# Altium footprint library WA-SMSI.PcbLib: 42 footprints (part 1 of 3)
Each footprint in its own frame and in the unit in brackets; x right, y up, seen from the top. Pads: shape width x height; smd on the part's side, far side on the other; paste and mask are expansions set on the pad; w line width, h text height; cw(c..) or ccw(c..) is an arc to the next point about the centre after c.
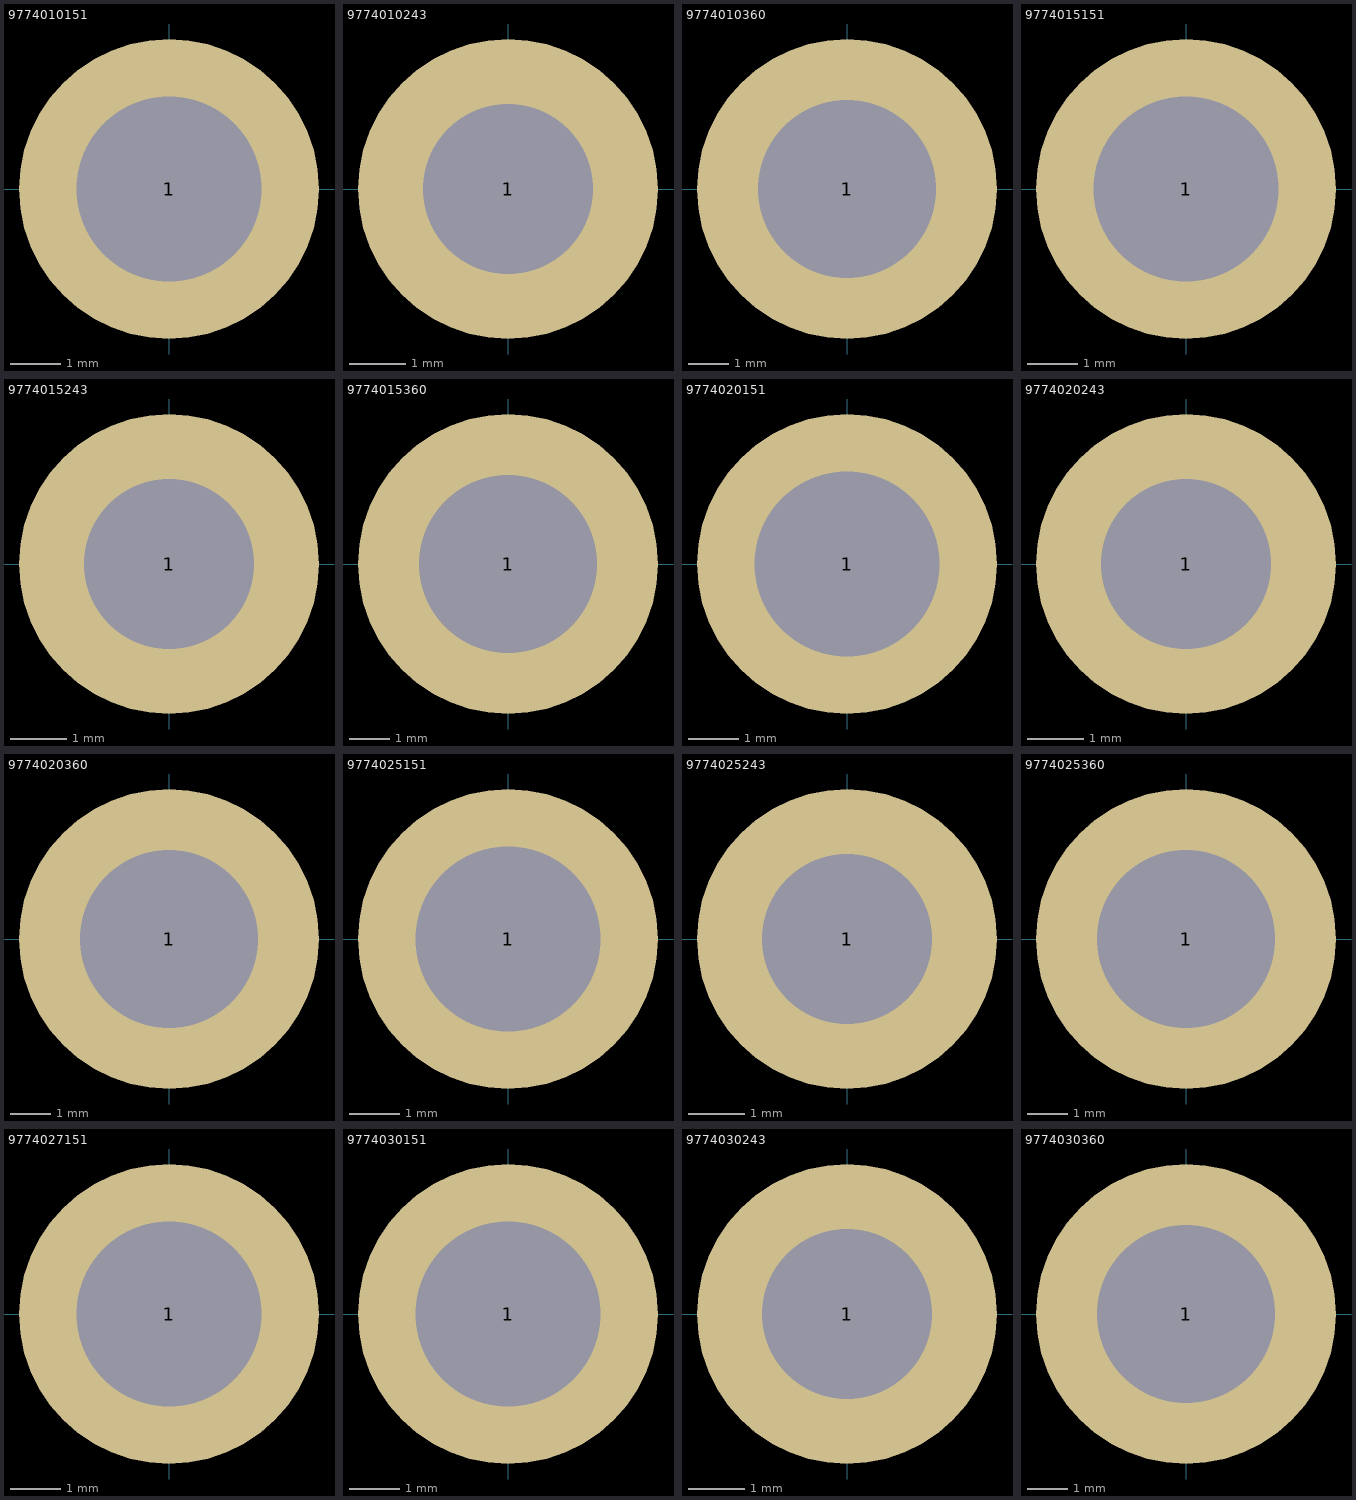
[diagram p0: the footprints below, top view; thin cyan lines are the x and y axes]

## 9774010151 [mm] "M2.5 Thread Internal, Length 1mm"
height 1
pads (1):
  round 6 / inner round 0 / far side round 0 hole 3.7 unplated paste-403.566: 1(0,0)
Top Paste:
  region: 0.25,2.939 0.508,2.917 1.009,2.784 1.478,2.566 1.903,2.269 2.269,1.903 2.566,1.478 2.784,1.009 2.917,0.508 2.939,0.25 1.883,0.25 1.857,0.403 1.767,0.699 1.629,0.977 1.449,1.229 1.229,1.449 0.977,1.629 0.7,1.767 0.403,1.857 0.25,1.883
  region: -2.939,0.25 -2.917,0.508 -2.784,1.009 -2.566,1.478 -2.269,1.903 -1.903,2.269 -1.478,2.566 -1.009,2.784 -0.508,2.917 -0.25,2.939 -0.25,1.883 -0.403,1.857 -0.699,1.767 -0.977,1.629 -1.229,1.449 -1.449,1.229 -1.629,0.977 -1.767,0.7 -1.857,0.403 -1.883,0.25
  region: -0.25,-2.939 -0.508,-2.917 -1.009,-2.784 -1.478,-2.566 -1.903,-2.269 -2.269,-1.903 -2.566,-1.478 -2.784,-1.009 -2.917,-0.508 -2.939,-0.25 -1.883,-0.25 -1.857,-0.403 -1.767,-0.699 -1.629,-0.977 -1.449,-1.229 -1.229,-1.449 -0.977,-1.629 -0.7,-1.767 -0.403,-1.857 -0.25,-1.883
  region: 2.939,-0.25 2.917,-0.508 2.784,-1.009 2.566,-1.478 2.269,-1.903 1.903,-2.269 1.478,-2.566 1.009,-2.784 0.508,-2.917 0.25,-2.939 0.25,-1.883 0.403,-1.857 0.699,-1.767 0.977,-1.629 1.229,-1.449 1.449,-1.229 1.629,-0.977 1.767,-0.7 1.857,-0.403 1.883,-0.25
Mechanical 13:
  circle w0.15: c0,0 r2.55
3D body "9774010151.stp": height 1.01, standoff -1.39, extent -2.55,-2.545 2.53,2.545

## 9774010243 [mm] "M2 Thread Internal, Length 1mm"
height 1
pads (1):
  round 5.3 / inner round 0 / far side round 0 hole 3 unplated paste-403.566: 1(0,0)
Top Paste:
  region: -2.588,0.25 -2.566,0.473 -2.447,0.906 -2.256,1.312 -1.997,1.68 -1.68,1.997 -1.312,2.256 -0.906,2.447 -0.473,2.566 -0.25,2.588 -0.25,1.529 -0.25,1.53 -0.368,1.506 -0.598,1.43 -0.812,1.32 -1.007,1.178 -1.178,1.007 -1.32,0.812 -1.43,0.598 -1.506,0.368 -1.53,0.25
  region: -0.25,-2.588 -0.473,-2.566 -0.906,-2.447 -1.312,-2.256 -1.68,-1.997 -1.997,-1.68 -2.256,-1.312 -2.447,-0.906 -2.566,-0.473 -2.588,-0.25 -1.529,-0.25 -1.53,-0.25 -1.506,-0.368 -1.43,-0.598 -1.32,-0.812 -1.178,-1.007 -1.007,-1.178 -0.812,-1.32 -0.598,-1.43 -0.368,-1.506 -0.25,-1.53
  region: 2.588,-0.25 2.566,-0.473 2.447,-0.906 2.256,-1.312 1.997,-1.68 1.68,-1.997 1.312,-2.256 0.906,-2.447 0.473,-2.566 0.25,-2.588 0.25,-1.529 0.25,-1.53 0.368,-1.506 0.598,-1.43 0.812,-1.32 1.007,-1.178 1.178,-1.007 1.32,-0.812 1.43,-0.598 1.506,-0.368 1.53,-0.25
  region: 0.25,2.588 0.473,2.566 0.906,2.447 1.312,2.256 1.68,1.997 1.997,1.68 2.256,1.312 2.447,0.906 2.566,0.473 2.588,0.25 1.529,0.25 1.53,0.25 1.506,0.368 1.43,0.598 1.32,0.812 1.178,1.007 1.007,1.178 0.812,1.32 0.598,1.43 0.368,1.506 0.25,1.53
Mechanical 13:
  circle w0.15: c0,0 r2.175
3D body "9774010243.stp": height 1.01, standoff -1.39, extent -2.175,-2.171 2.158,2.171

## 9774010360 [mm] "M3 Thread Internal, Length 1mm"
height 1
pads (1):
  round 7.4 / inner round 0 / far side round 0 hole 4.4 unplated paste-403.566: 1(0,0)
Top Paste:
  region: -3.641,0.25 -2.236,0.25 -2.207,0.437 -2.102,0.801 -1.938,1.143 -1.719,1.452 -1.451,1.719 -1.142,1.938 -0.801,2.103 -0.437,2.207 -0.25,2.236 -0.25,3.641 -0.468,3.626 -0.897,3.545 -1.313,3.413 -1.71,3.232 -2.083,3.005 -2.426,2.735 -2.735,2.427 -3.005,2.083 -3.232,1.71 -3.413,1.313 -3.545,0.897 -3.626,0.468
  region: -0.25,-3.641 -0.25,-2.236 -0.437,-2.207 -0.801,-2.102 -1.143,-1.938 -1.452,-1.719 -1.719,-1.451 -1.938,-1.142 -2.103,-0.801 -2.207,-0.437 -2.236,-0.25 -3.641,-0.25 -3.626,-0.468 -3.545,-0.897 -3.413,-1.313 -3.232,-1.71 -3.005,-2.083 -2.735,-2.426 -2.427,-2.735 -2.083,-3.005 -1.71,-3.232 -1.313,-3.413 -0.897,-3.545 -0.468,-3.626
  region: 3.641,-0.25 2.236,-0.25 2.207,-0.437 2.102,-0.801 1.938,-1.143 1.719,-1.452 1.451,-1.719 1.142,-1.938 0.801,-2.103 0.437,-2.207 0.25,-2.236 0.25,-3.641 0.468,-3.626 0.897,-3.545 1.313,-3.413 1.71,-3.232 2.083,-3.005 2.426,-2.735 2.735,-2.427 3.005,-2.083 3.232,-1.71 3.413,-1.313 3.545,-0.897 3.626,-0.468
  region: 0.25,3.641 0.25,2.236 0.437,2.207 0.801,2.102 1.143,1.938 1.452,1.719 1.719,1.451 1.938,1.142 2.103,0.801 2.207,0.437 2.236,0.25 3.641,0.25 3.626,0.468 3.545,0.897 3.413,1.313 3.232,1.71 3.005,2.083 2.735,2.426 2.427,2.735 2.083,3.005 1.71,3.232 1.313,3.413 0.897,3.545 0.468,3.626
Mechanical 13:
  circle w0.15: c0,0 r3
3D body "9774010360.stp": height 1.01, standoff -1.39, extent -2.994,-3 2.994,2.976

## 9774015151 [mm] "M2.5 Thread Internal, Length 1.5mm"
height 1.5
pads (1):
  round 6 / inner round 0 / far side round 0 hole 3.7 unplated paste-403.566: 1(0,0)
Top Paste:
  region: 2.939,-0.25 2.917,-0.508 2.784,-1.009 2.566,-1.478 2.269,-1.903 1.903,-2.269 1.478,-2.566 1.009,-2.784 0.508,-2.917 0.25,-2.939 0.25,-1.883 0.403,-1.857 0.699,-1.767 0.977,-1.629 1.229,-1.449 1.449,-1.229 1.629,-0.977 1.767,-0.7 1.857,-0.403 1.883,-0.25
  region: -0.25,-2.939 -0.508,-2.917 -1.009,-2.784 -1.478,-2.566 -1.903,-2.269 -2.269,-1.903 -2.566,-1.478 -2.784,-1.009 -2.917,-0.508 -2.939,-0.25 -1.883,-0.25 -1.857,-0.403 -1.767,-0.699 -1.629,-0.977 -1.449,-1.229 -1.229,-1.449 -0.977,-1.629 -0.7,-1.767 -0.403,-1.857 -0.25,-1.883
  region: -2.939,0.25 -2.917,0.508 -2.784,1.009 -2.566,1.478 -2.269,1.903 -1.903,2.269 -1.478,2.566 -1.009,2.784 -0.508,2.917 -0.25,2.939 -0.25,1.883 -0.403,1.857 -0.699,1.767 -0.977,1.629 -1.229,1.449 -1.449,1.229 -1.629,0.977 -1.767,0.7 -1.857,0.403 -1.883,0.25
  region: 0.25,2.939 0.508,2.917 1.009,2.784 1.478,2.566 1.903,2.269 2.269,1.903 2.566,1.478 2.784,1.009 2.917,0.508 2.939,0.25 1.883,0.25 1.857,0.403 1.767,0.699 1.629,0.977 1.449,1.229 1.229,1.449 0.977,1.629 0.7,1.767 0.403,1.857 0.25,1.883
Mechanical 13:
  circle w0.15: c0,0 r2.55
3D body "9774015151.stp": height 1.51, standoff -1.39, extent -2.55,-2.545 2.53,2.545

## 9774015243 [mm] "M2 Thread Internal, Length 1.5mm"
height 1.5
pads (1):
  round 5.3 / inner round 0 / far side round 0 hole 3 unplated paste-403.566: 1(0,0)
Top Paste:
  region: -2.588,0.25 -2.566,0.473 -2.447,0.906 -2.256,1.312 -1.997,1.68 -1.68,1.997 -1.312,2.256 -0.906,2.447 -0.473,2.566 -0.25,2.588 -0.25,1.529 -0.25,1.53 -0.368,1.506 -0.598,1.43 -0.812,1.32 -1.007,1.178 -1.178,1.007 -1.32,0.812 -1.43,0.598 -1.506,0.368 -1.53,0.25
  region: -0.25,-2.588 -0.473,-2.566 -0.906,-2.447 -1.312,-2.256 -1.68,-1.997 -1.997,-1.68 -2.256,-1.312 -2.447,-0.906 -2.566,-0.473 -2.588,-0.25 -1.529,-0.25 -1.53,-0.25 -1.506,-0.368 -1.43,-0.598 -1.32,-0.812 -1.178,-1.007 -1.007,-1.178 -0.812,-1.32 -0.598,-1.43 -0.368,-1.506 -0.25,-1.53
  region: 2.588,-0.25 2.566,-0.473 2.447,-0.906 2.256,-1.312 1.997,-1.68 1.68,-1.997 1.312,-2.256 0.906,-2.447 0.473,-2.566 0.25,-2.588 0.25,-1.529 0.25,-1.53 0.368,-1.506 0.598,-1.43 0.812,-1.32 1.007,-1.178 1.178,-1.007 1.32,-0.812 1.43,-0.598 1.506,-0.368 1.53,-0.25
  region: 0.25,2.588 0.473,2.566 0.906,2.447 1.312,2.256 1.68,1.997 1.997,1.68 2.256,1.312 2.447,0.906 2.566,0.473 2.588,0.25 1.529,0.25 1.53,0.25 1.506,0.368 1.43,0.598 1.32,0.812 1.178,1.007 1.007,1.178 0.812,1.32 0.598,1.43 0.368,1.506 0.25,1.53
Mechanical 13:
  circle w0.15: c0,0 r2.175
3D body "9774015243.stp": height 1.51, standoff -1.39, extent -2.175,-2.171 2.158,2.171

## 9774015360 [mm] "M3 Thread Internal, Length 1.5mm"
height 1.5
pads (1):
  round 7.4 / inner round 0 / far side round 0 hole 4.4 unplated paste-403.566: 1(0,0)
Top Paste:
  region: 0.25,3.641 0.25,2.236 0.437,2.207 0.801,2.102 1.143,1.938 1.452,1.719 1.719,1.451 1.938,1.142 2.103,0.801 2.207,0.437 2.236,0.25 3.641,0.25 3.626,0.468 3.545,0.897 3.413,1.313 3.232,1.71 3.005,2.083 2.735,2.426 2.427,2.735 2.083,3.005 1.71,3.232 1.313,3.413 0.897,3.545 0.468,3.626
  region: 3.641,-0.25 2.236,-0.25 2.207,-0.437 2.102,-0.801 1.938,-1.143 1.719,-1.452 1.451,-1.719 1.142,-1.938 0.801,-2.103 0.437,-2.207 0.25,-2.236 0.25,-3.641 0.468,-3.626 0.897,-3.545 1.313,-3.413 1.71,-3.232 2.083,-3.005 2.426,-2.735 2.735,-2.427 3.005,-2.083 3.232,-1.71 3.413,-1.313 3.545,-0.897 3.626,-0.468
  region: -0.25,-3.641 -0.25,-2.236 -0.437,-2.207 -0.801,-2.102 -1.143,-1.938 -1.452,-1.719 -1.719,-1.451 -1.938,-1.142 -2.103,-0.801 -2.207,-0.437 -2.236,-0.25 -3.641,-0.25 -3.626,-0.468 -3.545,-0.897 -3.413,-1.313 -3.232,-1.71 -3.005,-2.083 -2.735,-2.426 -2.427,-2.735 -2.083,-3.005 -1.71,-3.232 -1.313,-3.413 -0.897,-3.545 -0.468,-3.626
  region: -3.641,0.25 -2.236,0.25 -2.207,0.437 -2.102,0.801 -1.938,1.143 -1.719,1.452 -1.451,1.719 -1.142,1.938 -0.801,2.103 -0.437,2.207 -0.25,2.236 -0.25,3.641 -0.468,3.626 -0.897,3.545 -1.313,3.413 -1.71,3.232 -2.083,3.005 -2.426,2.735 -2.735,2.427 -3.005,2.083 -3.232,1.71 -3.413,1.313 -3.545,0.897 -3.626,0.468
Mechanical 13:
  circle w0.15: c0,0 r3
3D body "9774015360.stp": height 1.51, standoff -1.39, extent -2.994,-3 2.994,2.976

## 9774020151 [mm] "M2.5 Thread Internal, Length 2mm"
height 2
pads (1):
  round 6 / inner round 0 / far side round 0 hole 3.7 unplated paste-403.566: 1(0,0)
Top Paste:
  region: 2.939,-0.25 2.917,-0.508 2.784,-1.009 2.566,-1.478 2.269,-1.903 1.903,-2.269 1.478,-2.566 1.009,-2.784 0.508,-2.917 0.25,-2.939 0.25,-1.883 0.403,-1.857 0.699,-1.767 0.977,-1.629 1.229,-1.449 1.449,-1.229 1.629,-0.977 1.767,-0.7 1.857,-0.403 1.883,-0.25
  region: -0.25,-2.939 -0.508,-2.917 -1.009,-2.784 -1.478,-2.566 -1.903,-2.269 -2.269,-1.903 -2.566,-1.478 -2.784,-1.009 -2.917,-0.508 -2.939,-0.25 -1.883,-0.25 -1.857,-0.403 -1.767,-0.699 -1.629,-0.977 -1.449,-1.229 -1.229,-1.449 -0.977,-1.629 -0.7,-1.767 -0.403,-1.857 -0.25,-1.883
  region: -2.939,0.25 -2.917,0.508 -2.784,1.009 -2.566,1.478 -2.269,1.903 -1.903,2.269 -1.478,2.566 -1.009,2.784 -0.508,2.917 -0.25,2.939 -0.25,1.883 -0.403,1.857 -0.699,1.767 -0.977,1.629 -1.229,1.449 -1.449,1.229 -1.629,0.977 -1.767,0.7 -1.857,0.403 -1.883,0.25
  region: 0.25,2.939 0.508,2.917 1.009,2.784 1.478,2.566 1.903,2.269 2.269,1.903 2.566,1.478 2.784,1.009 2.917,0.508 2.939,0.25 1.883,0.25 1.857,0.403 1.767,0.699 1.629,0.977 1.449,1.229 1.229,1.449 0.977,1.629 0.7,1.767 0.403,1.857 0.25,1.883
Mechanical 13:
  circle w0.15: c0,0 r2.55
3D body "9774020151.stp": height 2.01, standoff -1.39, extent -2.55,-2.545 2.53,2.545

## 9774020243 [mm] "M2 Thread Internal, Length 2mm"
height 2
pads (1):
  round 5.3 / inner round 0 / far side round 0 hole 3 unplated paste-403.566: 1(0,0)
Top Paste:
  region: 0.25,2.588 0.473,2.566 0.906,2.447 1.312,2.256 1.68,1.997 1.997,1.68 2.256,1.312 2.447,0.906 2.566,0.473 2.588,0.25 1.529,0.25 1.53,0.25 1.506,0.368 1.43,0.598 1.32,0.812 1.178,1.007 1.007,1.178 0.812,1.32 0.598,1.43 0.368,1.506 0.25,1.53
  region: 2.588,-0.25 2.566,-0.473 2.447,-0.906 2.256,-1.312 1.997,-1.68 1.68,-1.997 1.312,-2.256 0.906,-2.447 0.473,-2.566 0.25,-2.588 0.25,-1.529 0.25,-1.53 0.368,-1.506 0.598,-1.43 0.812,-1.32 1.007,-1.178 1.178,-1.007 1.32,-0.812 1.43,-0.598 1.506,-0.368 1.53,-0.25
  region: -0.25,-2.588 -0.473,-2.566 -0.906,-2.447 -1.312,-2.256 -1.68,-1.997 -1.997,-1.68 -2.256,-1.312 -2.447,-0.906 -2.566,-0.473 -2.588,-0.25 -1.529,-0.25 -1.53,-0.25 -1.506,-0.368 -1.43,-0.598 -1.32,-0.812 -1.178,-1.007 -1.007,-1.178 -0.812,-1.32 -0.598,-1.43 -0.368,-1.506 -0.25,-1.53
  region: -2.588,0.25 -2.566,0.473 -2.447,0.906 -2.256,1.312 -1.997,1.68 -1.68,1.997 -1.312,2.256 -0.906,2.447 -0.473,2.566 -0.25,2.588 -0.25,1.529 -0.25,1.53 -0.368,1.506 -0.598,1.43 -0.812,1.32 -1.007,1.178 -1.178,1.007 -1.32,0.812 -1.43,0.598 -1.506,0.368 -1.53,0.25
Mechanical 13:
  circle w0.15: c0,0 r2.175
3D body "9774020243.stp": height 2.01, standoff -1.39, extent -2.175,-2.171 2.158,2.171

## 9774020360 [mm] "M3 Thread Internal, Length 2mm"
height 2
pads (1):
  round 7.4 / inner round 0 / far side round 0 hole 4.4 unplated paste-403.566: 1(0,0)
Top Paste:
  region: -3.641,0.25 -2.236,0.25 -2.207,0.437 -2.102,0.801 -1.938,1.143 -1.719,1.452 -1.451,1.719 -1.142,1.938 -0.801,2.103 -0.437,2.207 -0.25,2.236 -0.25,3.641 -0.468,3.626 -0.897,3.545 -1.313,3.413 -1.71,3.232 -2.083,3.005 -2.426,2.735 -2.735,2.427 -3.005,2.083 -3.232,1.71 -3.413,1.313 -3.545,0.897 -3.626,0.468
  region: -0.25,-3.641 -0.25,-2.236 -0.437,-2.207 -0.801,-2.102 -1.143,-1.938 -1.452,-1.719 -1.719,-1.451 -1.938,-1.142 -2.103,-0.801 -2.207,-0.437 -2.236,-0.25 -3.641,-0.25 -3.626,-0.468 -3.545,-0.897 -3.413,-1.313 -3.232,-1.71 -3.005,-2.083 -2.735,-2.426 -2.427,-2.735 -2.083,-3.005 -1.71,-3.232 -1.313,-3.413 -0.897,-3.545 -0.468,-3.626
  region: 3.641,-0.25 2.236,-0.25 2.207,-0.437 2.102,-0.801 1.938,-1.143 1.719,-1.452 1.451,-1.719 1.142,-1.938 0.801,-2.103 0.437,-2.207 0.25,-2.236 0.25,-3.641 0.468,-3.626 0.897,-3.545 1.313,-3.413 1.71,-3.232 2.083,-3.005 2.426,-2.735 2.735,-2.427 3.005,-2.083 3.232,-1.71 3.413,-1.313 3.545,-0.897 3.626,-0.468
  region: 0.25,3.641 0.25,2.236 0.437,2.207 0.801,2.102 1.143,1.938 1.452,1.719 1.719,1.451 1.938,1.142 2.103,0.801 2.207,0.437 2.236,0.25 3.641,0.25 3.626,0.468 3.545,0.897 3.413,1.313 3.232,1.71 3.005,2.083 2.735,2.426 2.427,2.735 2.083,3.005 1.71,3.232 1.313,3.413 0.897,3.545 0.468,3.626
Mechanical 13:
  circle w0.15: c0,0 r3
3D body "9774020360.stp": height 2.01, standoff -1.39, extent -2.994,-3 2.994,2.976

## 9774025151 [mm] "M2.5 Thread Internal, Length 2.5mm"
height 2.5
pads (1):
  round 6 / inner round 0 / far side round 0 hole 3.7 unplated paste-403.566: 1(0,0)
Top Paste:
  region: 2.939,-0.25 2.917,-0.508 2.784,-1.009 2.566,-1.478 2.269,-1.903 1.903,-2.269 1.478,-2.566 1.009,-2.784 0.508,-2.917 0.25,-2.939 0.25,-1.883 0.403,-1.857 0.699,-1.767 0.977,-1.629 1.229,-1.449 1.449,-1.229 1.629,-0.977 1.767,-0.7 1.857,-0.403 1.883,-0.25
  region: -0.25,-2.939 -0.508,-2.917 -1.009,-2.784 -1.478,-2.566 -1.903,-2.269 -2.269,-1.903 -2.566,-1.478 -2.784,-1.009 -2.917,-0.508 -2.939,-0.25 -1.883,-0.25 -1.857,-0.403 -1.767,-0.699 -1.629,-0.977 -1.449,-1.229 -1.229,-1.449 -0.977,-1.629 -0.7,-1.767 -0.403,-1.857 -0.25,-1.883
  region: -2.939,0.25 -2.917,0.508 -2.784,1.009 -2.566,1.478 -2.269,1.903 -1.903,2.269 -1.478,2.566 -1.009,2.784 -0.508,2.917 -0.25,2.939 -0.25,1.883 -0.403,1.857 -0.699,1.767 -0.977,1.629 -1.229,1.449 -1.449,1.229 -1.629,0.977 -1.767,0.7 -1.857,0.403 -1.883,0.25
  region: 0.25,2.939 0.508,2.917 1.009,2.784 1.478,2.566 1.903,2.269 2.269,1.903 2.566,1.478 2.784,1.009 2.917,0.508 2.939,0.25 1.883,0.25 1.857,0.403 1.767,0.699 1.629,0.977 1.449,1.229 1.229,1.449 0.977,1.629 0.7,1.767 0.403,1.857 0.25,1.883
Mechanical 13:
  circle w0.15: c0,0 r2.55
3D body "9774025151.stp": height 2.51, standoff -1.39, extent -2.55,-2.545 2.53,2.545

## 9774025243 [mm] "M2 Thread Internal, Length 2.5mm"
height 2.5
pads (1):
  round 5.3 / inner round 0 / far side round 0 hole 3 unplated paste-403.566: 1(0,0)
Top Paste:
  region: 0.25,2.588 0.473,2.566 0.906,2.447 1.312,2.256 1.68,1.997 1.997,1.68 2.256,1.312 2.447,0.906 2.566,0.473 2.588,0.25 1.529,0.25 1.53,0.25 1.506,0.368 1.43,0.598 1.32,0.812 1.178,1.007 1.007,1.178 0.812,1.32 0.598,1.43 0.368,1.506 0.25,1.53
  region: 2.588,-0.25 2.566,-0.473 2.447,-0.906 2.256,-1.312 1.997,-1.68 1.68,-1.997 1.312,-2.256 0.906,-2.447 0.473,-2.566 0.25,-2.588 0.25,-1.529 0.25,-1.53 0.368,-1.506 0.598,-1.43 0.812,-1.32 1.007,-1.178 1.178,-1.007 1.32,-0.812 1.43,-0.598 1.506,-0.368 1.53,-0.25
  region: -0.25,-2.588 -0.473,-2.566 -0.906,-2.447 -1.312,-2.256 -1.68,-1.997 -1.997,-1.68 -2.256,-1.312 -2.447,-0.906 -2.566,-0.473 -2.588,-0.25 -1.529,-0.25 -1.53,-0.25 -1.506,-0.368 -1.43,-0.598 -1.32,-0.812 -1.178,-1.007 -1.007,-1.178 -0.812,-1.32 -0.598,-1.43 -0.368,-1.506 -0.25,-1.53
  region: -2.588,0.25 -2.566,0.473 -2.447,0.906 -2.256,1.312 -1.997,1.68 -1.68,1.997 -1.312,2.256 -0.906,2.447 -0.473,2.566 -0.25,2.588 -0.25,1.529 -0.25,1.53 -0.368,1.506 -0.598,1.43 -0.812,1.32 -1.007,1.178 -1.178,1.007 -1.32,0.812 -1.43,0.598 -1.506,0.368 -1.53,0.25
Mechanical 13:
  circle w0.15: c0,0 r2.175
3D body "9774025243.stp": height 2.51, standoff -1.39, extent -2.175,-2.171 2.158,2.171

## 9774025360 [mm] "M3 Thread Internal, Length 2.5mm"
height 2.5
pads (1):
  round 7.4 / inner round 0 / far side round 0 hole 4.4 unplated paste-403.566: 1(0,0)
Top Paste:
  region: 0.25,3.641 0.25,2.236 0.437,2.207 0.801,2.102 1.143,1.938 1.452,1.719 1.719,1.451 1.938,1.142 2.103,0.801 2.207,0.437 2.236,0.25 3.641,0.25 3.626,0.468 3.545,0.897 3.413,1.313 3.232,1.71 3.005,2.083 2.735,2.426 2.427,2.735 2.083,3.005 1.71,3.232 1.313,3.413 0.897,3.545 0.468,3.626
  region: 3.641,-0.25 2.236,-0.25 2.207,-0.437 2.102,-0.801 1.938,-1.143 1.719,-1.452 1.451,-1.719 1.142,-1.938 0.801,-2.103 0.437,-2.207 0.25,-2.236 0.25,-3.641 0.468,-3.626 0.897,-3.545 1.313,-3.413 1.71,-3.232 2.083,-3.005 2.426,-2.735 2.735,-2.427 3.005,-2.083 3.232,-1.71 3.413,-1.313 3.545,-0.897 3.626,-0.468
  region: -0.25,-3.641 -0.25,-2.236 -0.437,-2.207 -0.801,-2.102 -1.143,-1.938 -1.452,-1.719 -1.719,-1.451 -1.938,-1.142 -2.103,-0.801 -2.207,-0.437 -2.236,-0.25 -3.641,-0.25 -3.626,-0.468 -3.545,-0.897 -3.413,-1.313 -3.232,-1.71 -3.005,-2.083 -2.735,-2.426 -2.427,-2.735 -2.083,-3.005 -1.71,-3.232 -1.313,-3.413 -0.897,-3.545 -0.468,-3.626
  region: -3.641,0.25 -2.236,0.25 -2.207,0.437 -2.102,0.801 -1.938,1.143 -1.719,1.452 -1.451,1.719 -1.142,1.938 -0.801,2.103 -0.437,2.207 -0.25,2.236 -0.25,3.641 -0.468,3.626 -0.897,3.545 -1.313,3.413 -1.71,3.232 -2.083,3.005 -2.426,2.735 -2.735,2.427 -3.005,2.083 -3.232,1.71 -3.413,1.313 -3.545,0.897 -3.626,0.468
Mechanical 13:
  circle w0.15: c0,0 r3
3D body "9774025360.stp": height 2.51, standoff -1.39, extent -2.994,-3 2.994,2.976

## 9774027151 [mm] "M2.5 Thread Internal, Length 2.7mm"
height 2.7
pads (1):
  round 6 / inner round 0 / far side round 0 hole 3.7 unplated paste-403.566: 1(0,0)
Top Paste:
  region: 2.939,-0.25 2.917,-0.508 2.784,-1.009 2.566,-1.478 2.269,-1.903 1.903,-2.269 1.478,-2.566 1.009,-2.784 0.508,-2.917 0.25,-2.939 0.25,-1.883 0.403,-1.857 0.699,-1.767 0.977,-1.629 1.229,-1.449 1.449,-1.229 1.629,-0.977 1.767,-0.7 1.857,-0.403 1.883,-0.25
  region: -0.25,-2.939 -0.508,-2.917 -1.009,-2.784 -1.478,-2.566 -1.903,-2.269 -2.269,-1.903 -2.566,-1.478 -2.784,-1.009 -2.917,-0.508 -2.939,-0.25 -1.883,-0.25 -1.857,-0.403 -1.767,-0.699 -1.629,-0.977 -1.449,-1.229 -1.229,-1.449 -0.977,-1.629 -0.7,-1.767 -0.403,-1.857 -0.25,-1.883
  region: -2.939,0.25 -2.917,0.508 -2.784,1.009 -2.566,1.478 -2.269,1.903 -1.903,2.269 -1.478,2.566 -1.009,2.784 -0.508,2.917 -0.25,2.939 -0.25,1.883 -0.403,1.857 -0.699,1.767 -0.977,1.629 -1.229,1.449 -1.449,1.229 -1.629,0.977 -1.767,0.7 -1.857,0.403 -1.883,0.25
  region: 0.25,2.939 0.508,2.917 1.009,2.784 1.478,2.566 1.903,2.269 2.269,1.903 2.566,1.478 2.784,1.009 2.917,0.508 2.939,0.25 1.883,0.25 1.857,0.403 1.767,0.699 1.629,0.977 1.449,1.229 1.229,1.449 0.977,1.629 0.7,1.767 0.403,1.857 0.25,1.883
Mechanical 13:
  circle w0.15: c0,0 r2.55
3D body "9774027151.stp": height 2.71, standoff -1.39, extent -2.55,-2.545 2.53,2.545

## 9774030151 [mm] "M2.5 Thread Internal, Length 3mm"
height 3
pads (1):
  round 6 / inner round 0 / far side round 0 hole 3.7 unplated paste-403.566: 1(0,0)
Top Paste:
  region: 2.939,-0.25 2.917,-0.508 2.784,-1.009 2.566,-1.478 2.269,-1.903 1.903,-2.269 1.478,-2.566 1.009,-2.784 0.508,-2.917 0.25,-2.939 0.25,-1.883 0.403,-1.857 0.699,-1.767 0.977,-1.629 1.229,-1.449 1.449,-1.229 1.629,-0.977 1.767,-0.7 1.857,-0.403 1.883,-0.25
  region: -0.25,-2.939 -0.508,-2.917 -1.009,-2.784 -1.478,-2.566 -1.903,-2.269 -2.269,-1.903 -2.566,-1.478 -2.784,-1.009 -2.917,-0.508 -2.939,-0.25 -1.883,-0.25 -1.857,-0.403 -1.767,-0.699 -1.629,-0.977 -1.449,-1.229 -1.229,-1.449 -0.977,-1.629 -0.7,-1.767 -0.403,-1.857 -0.25,-1.883
  region: -2.939,0.25 -2.917,0.508 -2.784,1.009 -2.566,1.478 -2.269,1.903 -1.903,2.269 -1.478,2.566 -1.009,2.784 -0.508,2.917 -0.25,2.939 -0.25,1.883 -0.403,1.857 -0.699,1.767 -0.977,1.629 -1.229,1.449 -1.449,1.229 -1.629,0.977 -1.767,0.7 -1.857,0.403 -1.883,0.25
  region: 0.25,2.939 0.508,2.917 1.009,2.784 1.478,2.566 1.903,2.269 2.269,1.903 2.566,1.478 2.784,1.009 2.917,0.508 2.939,0.25 1.883,0.25 1.857,0.403 1.767,0.699 1.629,0.977 1.449,1.229 1.229,1.449 0.977,1.629 0.7,1.767 0.403,1.857 0.25,1.883
Mechanical 13:
  circle w0.15: c0,0 r2.55
3D body "9774030151.stp": height 3.01, standoff -1.39, extent -2.55,-2.545 2.53,2.545

## 9774030243 [mm] "M2 Thread Internal, Length 3mm"
height 3
pads (1):
  round 5.3 / inner round 0 / far side round 0 hole 3 unplated paste-403.566: 1(0,0)
Top Paste:
  region: -2.588,0.25 -2.566,0.473 -2.447,0.906 -2.256,1.312 -1.997,1.68 -1.68,1.997 -1.312,2.256 -0.906,2.447 -0.473,2.566 -0.25,2.588 -0.25,1.529 -0.25,1.53 -0.368,1.506 -0.598,1.43 -0.812,1.32 -1.007,1.178 -1.178,1.007 -1.32,0.812 -1.43,0.598 -1.506,0.368 -1.53,0.25
  region: -0.25,-2.588 -0.473,-2.566 -0.906,-2.447 -1.312,-2.256 -1.68,-1.997 -1.997,-1.68 -2.256,-1.312 -2.447,-0.906 -2.566,-0.473 -2.588,-0.25 -1.529,-0.25 -1.53,-0.25 -1.506,-0.368 -1.43,-0.598 -1.32,-0.812 -1.178,-1.007 -1.007,-1.178 -0.812,-1.32 -0.598,-1.43 -0.368,-1.506 -0.25,-1.53
  region: 2.588,-0.25 2.566,-0.473 2.447,-0.906 2.256,-1.312 1.997,-1.68 1.68,-1.997 1.312,-2.256 0.906,-2.447 0.473,-2.566 0.25,-2.588 0.25,-1.529 0.25,-1.53 0.368,-1.506 0.598,-1.43 0.812,-1.32 1.007,-1.178 1.178,-1.007 1.32,-0.812 1.43,-0.598 1.506,-0.368 1.53,-0.25
  region: 0.25,2.588 0.473,2.566 0.906,2.447 1.312,2.256 1.68,1.997 1.997,1.68 2.256,1.312 2.447,0.906 2.566,0.473 2.588,0.25 1.529,0.25 1.53,0.25 1.506,0.368 1.43,0.598 1.32,0.812 1.178,1.007 1.007,1.178 0.812,1.32 0.598,1.43 0.368,1.506 0.25,1.53
Mechanical 13:
  circle w0.15: c0,0 r2.175
3D body "9774030243.stp": height 3.01, standoff -1.39, extent -2.175,-2.171 2.158,2.171

## 9774030360 [mm] "M3 Thread Internal, Length 3mm"
height 3
pads (1):
  round 7.4 / inner round 0 / far side round 0 hole 4.4 unplated paste-403.566: 1(0,0)
Top Paste:
  region: -3.641,0.25 -2.236,0.25 -2.207,0.437 -2.102,0.801 -1.938,1.143 -1.719,1.452 -1.451,1.719 -1.142,1.938 -0.801,2.103 -0.437,2.207 -0.25,2.236 -0.25,3.641 -0.468,3.626 -0.897,3.545 -1.313,3.413 -1.71,3.232 -2.083,3.005 -2.426,2.735 -2.735,2.427 -3.005,2.083 -3.232,1.71 -3.413,1.313 -3.545,0.897 -3.626,0.468
  region: -0.25,-3.641 -0.25,-2.236 -0.437,-2.207 -0.801,-2.102 -1.143,-1.938 -1.452,-1.719 -1.719,-1.451 -1.938,-1.142 -2.103,-0.801 -2.207,-0.437 -2.236,-0.25 -3.641,-0.25 -3.626,-0.468 -3.545,-0.897 -3.413,-1.313 -3.232,-1.71 -3.005,-2.083 -2.735,-2.426 -2.427,-2.735 -2.083,-3.005 -1.71,-3.232 -1.313,-3.413 -0.897,-3.545 -0.468,-3.626
  region: 3.641,-0.25 2.236,-0.25 2.207,-0.437 2.102,-0.801 1.938,-1.143 1.719,-1.452 1.451,-1.719 1.142,-1.938 0.801,-2.103 0.437,-2.207 0.25,-2.236 0.25,-3.641 0.468,-3.626 0.897,-3.545 1.313,-3.413 1.71,-3.232 2.083,-3.005 2.426,-2.735 2.735,-2.427 3.005,-2.083 3.232,-1.71 3.413,-1.313 3.545,-0.897 3.626,-0.468
  region: 0.25,3.641 0.25,2.236 0.437,2.207 0.801,2.102 1.143,1.938 1.452,1.719 1.719,1.451 1.938,1.142 2.103,0.801 2.207,0.437 2.236,0.25 3.641,0.25 3.626,0.468 3.545,0.897 3.413,1.313 3.232,1.71 3.005,2.083 2.735,2.426 2.427,2.735 2.083,3.005 1.71,3.232 1.313,3.413 0.897,3.545 0.468,3.626
Mechanical 13:
  circle w0.15: c0,0 r3
3D body "9774030360.stp": height 3.01, standoff -1.39, extent -2.994,-3 2.994,2.976